# Altium footprint library PcbLib1.PcbLib: 1 footprints
Each footprint in its own frame and in the unit in brackets; x right, y up, seen from the top. Pads: shape width x height; smd on the part's side, far side on the other; paste and mask are expansions set on the pad; w line width, h text height; cw(c..) or ccw(c..) is an arc to the next point about the centre after c.
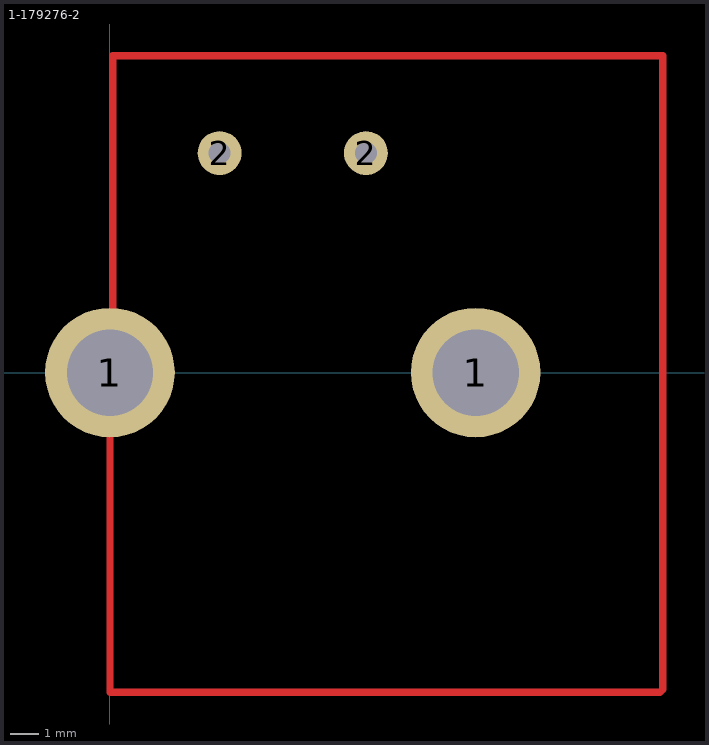
[diagram p0: the footprint, top view; thin cyan lines are the x and y axes]

## 1-179276-2 [mil] "CONN HEADER R/A 2POS 5.08MM"
height 368
pads (4):
  round 177.17 hole 118.11: 1(0,0) 1(500,0)
  round 60 hole 30: 2(150,300) 2(350,300)
Top Layer:
  lines w10: 0,-86.61 0,-437.01 751.97,-437.01 755.91,-433.07 755.91,433.07 3.94,433.07 3.94,90.55 3.94,-82.68